# EAGLE library part IC880A (library tobias)
iC880A - LoRaWAN Concentrator 868MHz NOT TESTED Info: http://www.wireless-solutions.de/products/long-range-radio/ic880a Datasheet: http://www.wireless-solutions.de/images/stories/downloads/Radio%20Modules/iC880A/iC880A_Datasheet_V0_15.pdf
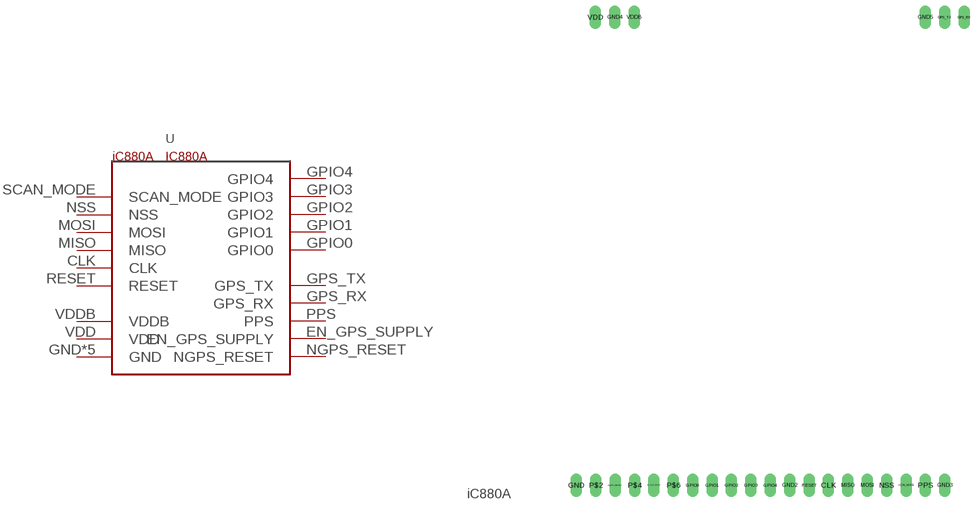
[diagram p2: symbol with the pads of IC880A; footprint IC880A]

Designator prefix -

## IC880A  [IC880A]
CLK  CLK
EN_GPS_SUPPLY  EN_GPS_SUPPLY
GND  GND
GND2  GND
GND3  GND
GND4  GND
GND5  GND
GPIO0  GPIO0
GPIO1  GPIO1
GPIO2  GPIO2
GPIO3  GPIO3
GPIO4  GPIO4
GPS_RX  GPS_RX
GPS_TX  GPS_TX
MISO  MISO
MOSI  MOSI
NGPS_RESET  NGPS_RESET
NSS  NSS
PPS  PPS
RESET  RESET
SCAN_MODE  SCAN_MODE
VDD  VDD
VDDB  VDDB

## Footprint IC880A (pad centres in mm)
drill 1.016 long: CLK 49.53,3.81; EN_GPS_SUPPLY 26.67,3.81; GND 16.51,3.81; GND2 44.45,3.81; GND3 64.77,3.81; GND4 21.55,65.11; GND5 62.21,65.11; GPIO0 31.75,3.81; GPIO1 34.29,3.81; GPIO2 36.83,3.81; GPIO3 39.37,3.81; GPIO4 41.91,3.81; GPS_RX 67.29,65.11; GPS_TX 64.75,65.11; MISO 52.07,3.81; MOSI 54.61,3.81; NGPS_RESET 21.59,3.81; NSS 57.15,3.81; P$2 19.05,3.81; P$4 24.13,3.81; P$6 29.21,3.81; PPS 62.23,3.81; RESET 46.99,3.81; SCAN_MODE 59.69,3.81; VDD 19.01,65.11; VDDB 24.09,65.11